# Altium footprint library coil 47uH.PcbLib: 1 footprints
Each footprint in its own frame and in the unit in brackets; x right, y up, seen from the top. Pads: shape width x height; smd on the part's side, far side on the other; paste and mask are expansions set on the pad; w line width, h text height; cw(c..) or ccw(c..) is an arc to the next point about the centre after c.
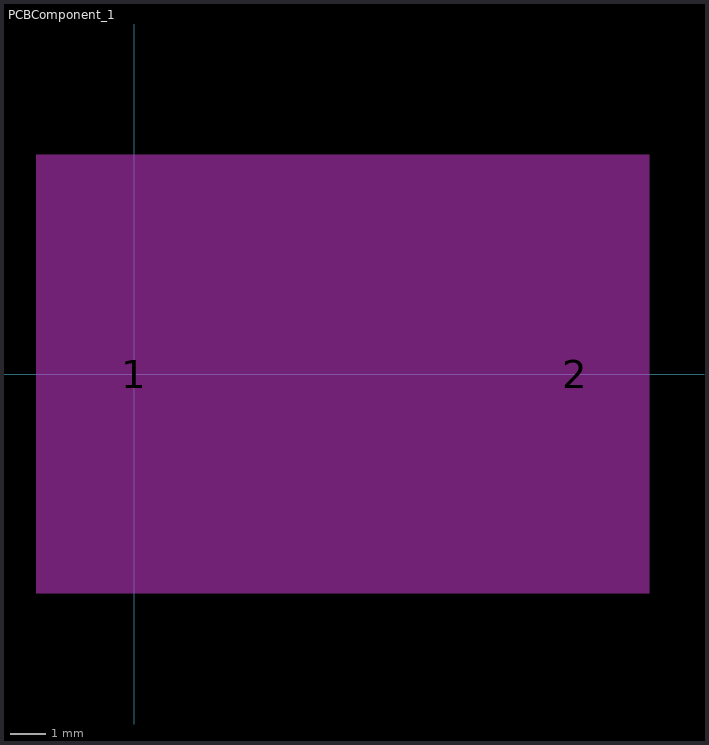
[diagram p0: the footprint, top view; thin cyan lines are the x and y axes]

## PCBComponent_1 [mm]
pads (2):
  rect 2.8x5.5 on Top Solder: 1(0,0) 2(12.5,0)
Top Layer keep-out:
  rectangle: -2.794,-6.223 14.605,6.223